# EAGLE library part PCM1721E (library burr-brown)
SoundPlus Stereo Audio DAC MPEG2/AC-3 Compatible
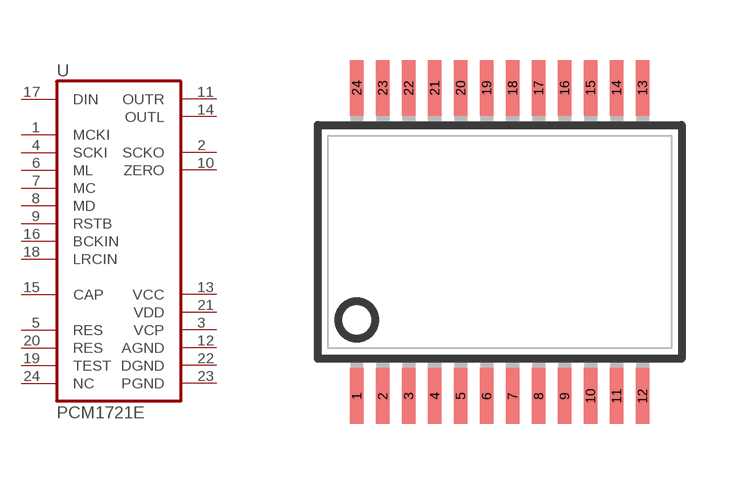
[diagram p100: symbol with the pads of SSOP24BU; footprint SSOP24BU]

Designator prefix U

## PCM1721E  [SSOP24BU]
1  MCKI  in
2  SCKO  out
3  VCP  pwr
4  SCKI  in
5  RES  pas
6  ML  in
7  MC  in
8  MD  in
9  RSTB  in
10  ZERO  out
11  OUTR  out
12  AGND  pwr
13  VCC  pwr
14  OUTL  out
15  CAP  pas
16  BCKIN  in
17  DIN  in
18  LRCIN  in
19  TEST  pas
20  RES  pas
21  VDD  pwr
22  DGND  pwr
23  PGND  pwr
24  NC  nc

## Footprint SSOP24BU (pad centres in mm)
Small Shrink Outline Package
smd 0.348 x 1.397: 1 -3.575,-3.856; 2 -2.925,-3.856; 3 -2.275,-3.856; 4 -1.625,-3.856; 5 -0.975,-3.856; 6 -0.325,-3.856; 7 0.325,-3.856; 8 0.975,-3.856; 9 1.625,-3.856; 10 2.275,-3.856; 11 2.925,-3.856; 12 3.575,-3.856; 13 3.575,3.856; 14 2.925,3.856; 15 2.275,3.856; 16 1.625,3.856; 17 0.975,3.856; 18 0.325,3.856; 19 -0.325,3.856; 20 -0.975,3.856; 21 -1.625,3.856; 22 -2.275,3.856; 23 -2.925,3.856; 24 -3.575,3.856